# Altium integrated library 350428-1.IntLib: 1 symbol
Pins are listed as number, name and electrical type; pins without a type are passive.

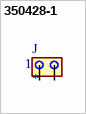
[diagram p0: symbol 350428-1]

## 350428-1
designator J
Connector Power Header 2 Position 6.35mm Solder Straight Through Hole 2 Terminal 1 Port; MP: 350428-1; MF: TE Connectivity; TE_purchase_URL: https://www.te.com/usa-en/product-350428-1.html?te_bu=Cor&te_type=disp&te_campaign=seda_glo_cor-seda-global-disp-prtnr-fy19-seda-model-bom-cta_sma-317_1&elqCampaignId=32493; Availability: Unavailable; Package: None; Value: *; EU_RoHS_Compliance: Compliant; Price: None; SnapEDA_Link: https://www.snapeda.com/parts/350428-1/TE%20Connectivity%20AMP%20Connectors/view-part/494591/?ref=snap
footprint 350428-1
pins: 1, 2